# EAGLE library part SWITCH_DP3T (library DP3T)
Nidec Components - DP3T J-WING Switch Characteristics 12V, 200mA DC Rating ON-ON-ON BBM
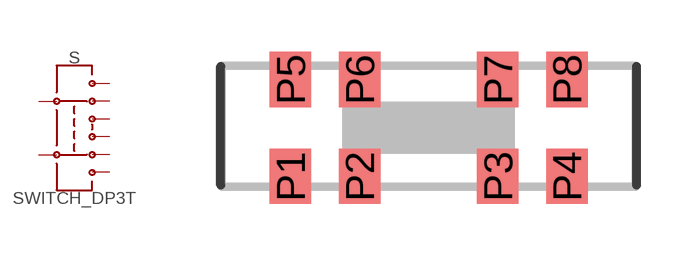
[diagram p0: symbol with the pads of SWITCH_DP3T_SMD_JWING; footprint SWITCH_DP3T_SMD_JWING]

Designator prefix S

## SWITCH_DP3T  [SWITCH_DP3T_SMD_JWING]
P1  1
P2  2
P3  3
P4  4
P5  5
P6  6
P7  7
P8  8

## Footprint SWITCH_DP3T_SMD_JWING (pad centres in mm)
J-WING - DP3T Mechanical Specifications: Pad Size: 1.2mm x 1.6mm Pin count:8 Pin pitch: 2mm (Smaller) and 4mm (Larger) Package Size: 3.5mm x 12mm Datasheet referenced for footprint <https://www.nidec-components.com/e/catalog/switch/cl-sb.pdf>
smd 1.2 x 1.6: P1 -4,-1.4; P2 -2,-1.4; P3 2,-1.4; P4 4,-1.4; P5 -4,1.4; P6 -2,1.4; P7 2,1.4; P8 4,1.4